# Altium integrated library TI Data Converters Analog to Digital Converter.IntLib: 2198 symbols (part 51 of 164)
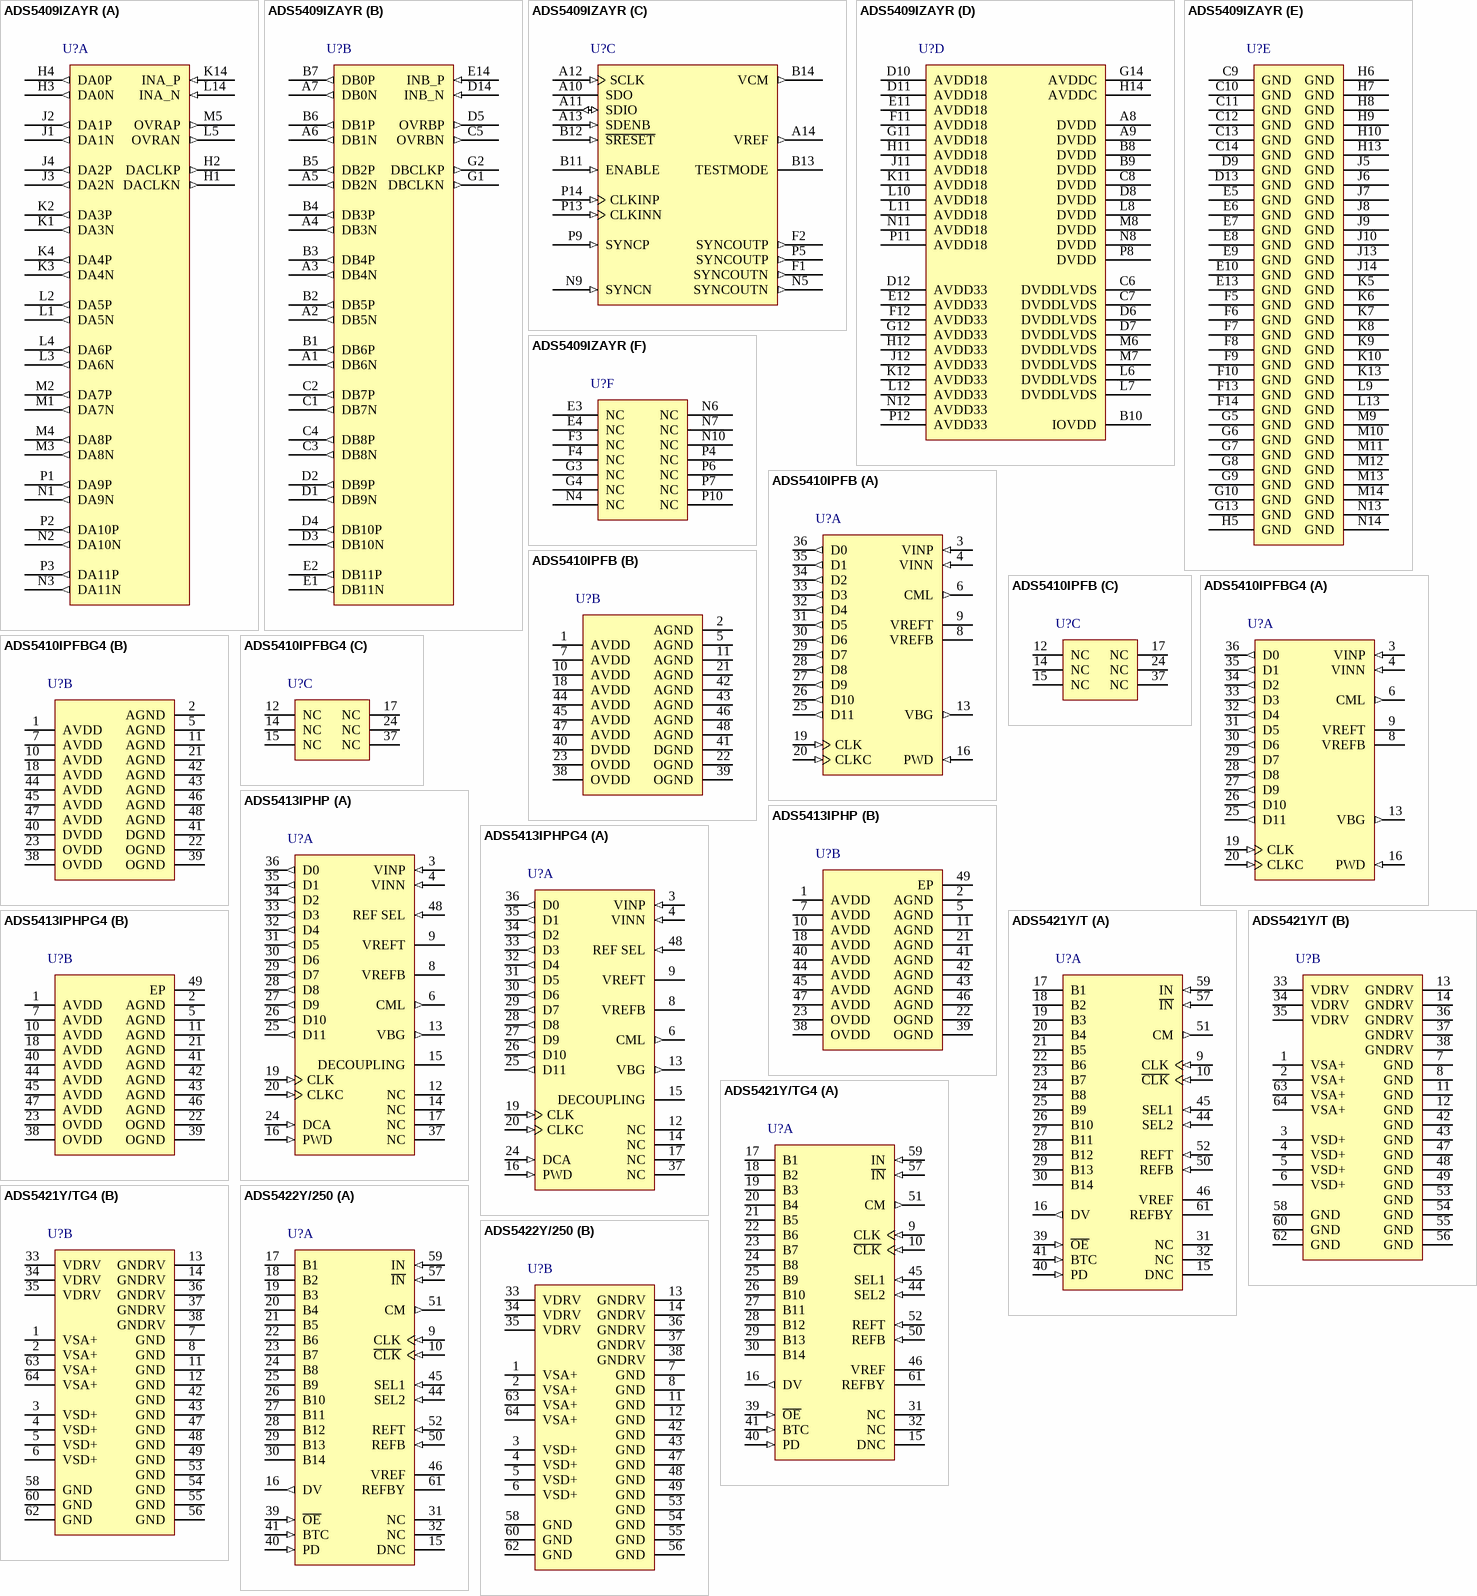
[diagram p176: symbols ADS5409IZAYR to ADS5422Y/250]

## ADS5409IZAYR
designator U?
Dual Channel 12-Bit 900 MSPS ADC, -40 to 85 degC, 196-pin BGA (ZAY196), Green (RoHS & no Sb/Br); Manufacturer: Texas Instruments; PartNumber: ADS5409IZAYR; # Input Channels: 2; Analog Voltage AV/DD(Max)(V): 3.45; Analog Voltage AV/DD(Min)(V): 3.15; Architecture: Pipeline; Digital Supply(Max)(V): 1.9; Digital Supply(Min)(V): 1.7; ENOB(Bits): 9.8; INL(Max)(+/-LSB): 5; Interface: DDR LVDS; Resolution(Bits): 12; Sample Rate(max)(SPS): 900M; SFDR(dB): 76; SINAD(dB): 60.9; SNR(dB): 61; SubFamily: High Speed ADC (>10MSPS); DatasheetVersion: SLAS935; PackageVersion: 4208324-4/C, 09/2010; PackageReference: ZAY196; PackageDescription: 196-Pin Plastic Ball Grid Array, Body 12 x 12 mm, Pitch 0.8 mm; Supplier 1: Digi-Key; Supplier Part Number 1: ADS809Y/250G4-ND; Eco-Plan: Green (RoHS & no Sb/Br); Mounting Technology: Surface Mount; ComponentLink1Description: Manufacturer URL; ComponentLink1URL: http://www.ti.com/; ComponentLink2Description: Datasheet; ComponentLink2URL: http://www.ti.com/lit/ds/symlink/ads5409.pdf; ComponentLink3Description: Package Specification; ComponentLink3URL: http://www.ti.com/litv/pdf/mpbga11
footprint TI-ZAY196 (BGA, 196-Balls, Body 12x12mm, Pitch 0.8mm)
part A pins: H1 DACLKN (out) "DDR differential output data clock for Bus A. Register programmable to provide either rising or falling edge to center of stable data nominal timing.", H2 DACLKP (out) "DDR differential output data clock for Bus A. Register programmable to provide either rising or falling edge to center of stable data nominal timing.", H3 DA0N (out) "ADC A Data Bits 11 (MSB) to 0 (LSB) in DDR output mode. Standard LVDS output.", H4 DA0P (out) "ADC A Data Bits 11 (MSB) to 0 (LSB) in DDR output mode. Standard LVDS output.", J1 DA1N (out) "ADC A Data Bits 11 (MSB) to 0 (LSB) in DDR output mode. Standard LVDS output.", J2 DA1P (out) "ADC A Data Bits 11 (MSB) to 0 (LSB) in DDR output mode. Standard LVDS output.", J3 DA2N (out) "ADC A Data Bits 11 (MSB) to 0 (LSB) in DDR output mode. Standard LVDS output.", J4 DA2P (out) "ADC A Data Bits 11 (MSB) to 0 (LSB) in DDR output mode. Standard LVDS output.", K1 DA3N (out) "ADC A Data Bits 11 (MSB) to 0 (LSB) in DDR output mode. Standard LVDS output.", K2 DA3P (out) "ADC A Data Bits 11 (MSB) to 0 (LSB) in DDR output mode. Standard LVDS output.", K3 DA4N (out) "ADC A Data Bits 11 (MSB) to 0 (LSB) in DDR output mode. Standard LVDS output.", K4 DA4P (out) "ADC A Data Bits 11 (MSB) to 0 (LSB) in DDR output mode. Standard LVDS output.", K14 INA_P (in) "Analog ADC A differential input signal.", L1 DA5N (out) "ADC A Data Bits 11 (MSB) to 0 (LSB) in DDR output mode. Standard LVDS output.", L2 DA5P (out) "ADC A Data Bits 11 (MSB) to 0 (LSB) in DDR output mode. Standard LVDS output.", L3 DA6N (out) "ADC A Data Bits 11 (MSB) to 0 (LSB) in DDR output mode. Standard LVDS output.", L4 DA6P (out) "ADC A Data Bits 11 (MSB) to 0 (LSB) in DDR output mode. Standard LVDS output.", L5 OVRAN (out) "Bus A, Overrange indicator, LVDS output. A logic high signals an analog input in excess of the full-scale range. Optional SYNC output.", L14 INA_N (in) "Analog ADC A differential input signal.", M1 DA7N (out) "ADC A Data Bits 11 (MSB) to 0 (LSB) in DDR output mode. Standard LVDS output.", M2 DA7P (out) "ADC A Data Bits 11 (MSB) to 0 (LSB) in DDR output mode. Standard LVDS output.", M3 DA8N (out) "ADC A Data Bits 11 (MSB) to 0 (LSB) in DDR output mode. Standard LVDS output.", M4 DA8P (out) "ADC A Data Bits 11 (MSB) to 0 (LSB) in DDR output mode. Standard LVDS output.", M5 OVRAP (out) "Bus A, Overrange indicator, LVDS output. A logic high signals an analog input in excess of the full-scale range. Optional SYNC output.", N1 DA9N (out) "ADC A Data Bits 11 (MSB) to 0 (LSB) in DDR output mode. Standard LVDS output.", N2 DA10N (out) "ADC A Data Bits 11 (MSB) to 0 (LSB) in DDR output mode. Standard LVDS output.", N3 DA11N (out) "ADC A Data Bits 11 (MSB) to 0 (LSB) in DDR output mode. Standard LVDS output.", P1 DA9P (out) "ADC A Data Bits 11 (MSB) to 0 (LSB) in DDR output mode. Standard LVDS output.", P2 DA10P (out) "ADC A Data Bits 11 (MSB) to 0 (LSB) in DDR output mode. Standard LVDS output.", P3 DA11P (out) "ADC A Data Bits 11 (MSB) to 0 (LSB) in DDR output mode. Standard LVDS output."
part B pins: A1 DB6N (out) "ADC B Data Bits 11 (MSB) to 0 (LSB) in DDR output mode. Standard LVDS output.", A2 DB5N (out) "ADC B Data Bits 11 (MSB) to 0 (LSB) in DDR output mode. Standard LVDS output.", A3 DB4N (out) "ADC B Data Bits 11 (MSB) to 0 (LSB) in DDR output mode. Standard LVDS output.", A4 DB3N (out) "ADC B Data Bits 11 (MSB) to 0 (LSB) in DDR output mode. Standard LVDS output.", A5 DB2N (out) "ADC B Data Bits 11 (MSB) to 0 (LSB) in DDR output mode. Standard LVDS output.", A6 DB1N (out) "ADC B Data Bits 11 (MSB) to 0 (LSB) in DDR output mode. Standard LVDS output.", A7 DB0N (out) "ADC B Data Bits 11 (MSB) to 0 (LSB) in DDR output mode. Standard LVDS output.", B1 DB6P (out) "ADC B Data Bits 11 (MSB) to 0 (LSB) in DDR output mode. Standard LVDS output.", B2 DB5P (out) "ADC B Data Bits 11 (MSB) to 0 (LSB) in DDR output mode. Standard LVDS output.", B3 DB4P (out) "ADC B Data Bits 11 (MSB) to 0 (LSB) in DDR output mode. Standard LVDS output.", B4 DB3P (out) "ADC B Data Bits 11 (MSB) to 0 (LSB) in DDR output mode. Standard LVDS output.", B5 DB2P (out) "ADC B Data Bits 11 (MSB) to 0 (LSB) in DDR output mode. Standard LVDS output.", B6 DB1P (out) "ADC B Data Bits 11 (MSB) to 0 (LSB) in DDR output mode. Standard LVDS output.", B7 DB0P (out) "ADC B Data Bits 11 (MSB) to 0 (LSB) in DDR output mode. Standard LVDS output.", C1 DB7N (out) "ADC B Data Bits 11 (MSB) to 0 (LSB) in DDR output mode. Standard LVDS output.", C2 DB7P (out) "ADC B Data Bits 11 (MSB) to 0 (LSB) in DDR output mode. Standard LVDS output.", C3 DB8N (out) "ADC B Data Bits 11 (MSB) to 0 (LSB) in DDR output mode. Standard LVDS output.", C4 DB8P (out) "ADC B Data Bits 11 (MSB) to 0 (LSB) in DDR output mode. Standard LVDS output.", C5 OVRBN (out) "Bus B, Overrange indicator, LVDS output. A logic high signals an analog input in excess of the full-scale range. Optional SYNC output.", D1 DB9N (out) "ADC B Data Bits 11 (MSB) to 0 (LSB) in DDR output mode. Standard LVDS output.", D2 DB9P (out) "ADC B Data Bits 11 (MSB) to 0 (LSB) in DDR output mode. Standard LVDS output.", D3 DB10N (out) "ADC B Data Bits 11 (MSB) to 0 (LSB) in DDR output mode. Standard LVDS output.", D4 DB10P (out) "ADC B Data Bits 11 (MSB) to 0 (LSB) in DDR output mode. Standard LVDS output.", D5 OVRBP (out) "Bus B, Overrange indicator, LVDS output. A logic high signals an analog input in excess of the full-scale range. Optional SYNC output.", D14 INB_N (in) "Analog ADC B differential input signal.", E1 DB11N (out) "ADC B Data Bits 11 (MSB) to 0 (LSB) in DDR output mode. Standard LVDS output.", E2 DB11P (out) "ADC B Data Bits 11 (MSB) to 0 (LSB) in DDR output mode. Standard LVDS output.", E14 INB_P (in) "Analog ADC B differential input signal.", G1 DBCLKN (out) "DDR differential output data clock for Bus B. Register programmable to provide either rising or falling edge to center of stable data nominal timing. Optionally Bus B can be latched with DACLKP/N.", G2 DBCLKP (out) "DDR differential output data clock for Bus B. Register programmable to provide either rising or falling edge to center of stable data nominal timing. Optionally Bus B can be latched with DACLKP/N."
part C pins: A10 SDO (hiz) "Uni-directional serial interface data in 4 pin mode (register x00, D16). The SDO pin is tri- stated in 3-pin interface mode (default). Internal 50kohm pull-down resistor.", A11 SDIO (io) "Bi-directional serial data in 3 pin mode (default). In 4-pin interface mode (register x00, D16), the SDIO pin in an input only. Internal 50kohm pull-down.", A12 SCLK (in) "Serial interface clock. Internal 50kohm pull-down resistor.", A13 SDENB (in) "Serial interface enable. Internal 50kohm pull-down resistor.", A14 VREF (out) "Reference voltage output (2V nominal). A 0.1uF capacitor to AGND is recommended, but not required.", B11 ENABLE (in) "Chip enable - active high. Power down function can be controlled through SPI register assignment. Internal 50kohm pull up resistor to IOVDD.", B12 ~{SRESET} (in) "Serial interface reset input. Active low. Initialized internal registers during high to low transition. Asynchronous. Internal 50kohm pull up resistor to IOVDD.", B13 TESTMODE "Factory internal test, do not connect", B14 VCM (out) "Output of the analog input common mode (nominally 1.9V). A 0.1uF capacitor to AGND is recommended.", F1 SYNCOUTN (out) "Synchronization output signal for synchronizing multiple ADCs. Can be disabled via SPI.", F2 SYNCOUTP (out) "Synchronization output signal for synchronizing multiple ADCs. Can be disabled via SPI.", N5 SYNCOUTN (out) "Synchronization output signal for synchronizing multiple ADCs. Can be disabled via SPI.", N9 SYNCN (in) "Synchronization input. Inactive if logic low. When clocked in a high state initially, this is used for resetting internal clocks and digital logic and starting the SYNCOUT signal. Internal 100ohm termination.", P5 SYNCOUTP (out) "Synchronization output signal for synchronizing multiple ADCs. Can be disabled via SPI.", P9 SYNCP (in) "Synchronization input. Inactive if logic low. When clocked in a high state initially, this is used for resetting internal clocks and digital logic and starting the SYNCOUT signal. Internal 100ohm termination.", P13 CLKINN (in) "Differential input clock", P14 CLKINP (in) "Differential input clock"
part D pins: A8 DVDD (power) "1.8V supply for digital block", A9 DVDD (power) "1.8V supply for digital block", B8 DVDD (power) "1.8V supply for digital block", B9 DVDD (power) "1.8V supply for digital block", B10 IOVDD (power) "1.8V for digital I/Os", C6 DVDDLVDS (power) "1.8V supply for LVDS outputs", C7 DVDDLVDS (power) "1.8V supply for LVDS outputs", C8 DVDD (power) "1.8V supply for digital block", D6 DVDDLVDS (power) "1.8V supply for LVDS outputs", D7 DVDDLVDS (power) "1.8V supply for LVDS outputs", D8 DVDD (power) "1.8V supply for digital block", D10 AVDD18 (power) "1.8V analog supply", D11 AVDD18 (power) "1.8V analog supply", D12 AVDD33 (power) "3.3V analog supply", E11 AVDD18 (power) "1.8V analog supply", E12 AVDD33 (power) "3.3V analog supply", F11 AVDD18 (power) "1.8V analog supply", F12 AVDD33 (power) "3.3V analog supply", G11 AVDD18 (power) "1.8V analog supply", G12 AVDD33 (power) "3.3V analog supply", G14 AVDDC (power) "1.8V supply for clock input", H11 AVDD18 (power) "1.8V analog supply", H12 AVDD33 (power) "3.3V analog supply", H14 AVDDC (power) "1.8V supply for clock input", J11 AVDD18 (power) "1.8V analog supply", J12 AVDD33 (power) "3.3V analog supply", K11 AVDD18 (power) "1.8V analog supply", K12 AVDD33 (power) "3.3V analog supply", L6 DVDDLVDS (power) "1.8V supply for LVDS outputs", L7 DVDDLVDS (power) "1.8V supply for LVDS outputs", L8 DVDD (power) "1.8V supply for digital block", L10 AVDD18 (power) "1.8V analog supply", L11 AVDD18 (power) "1.8V analog supply", L12 AVDD33 (power) "3.3V analog supply", M6 DVDDLVDS (power) "1.8V supply for LVDS outputs", M7 DVDDLVDS (power) "1.8V supply for LVDS outputs", M8 DVDD (power) "1.8V supply for digital block", N8 DVDD (power) "1.8V supply for digital block", N11 AVDD18 (power) "1.8V analog supply", N12 AVDD33 (power) "3.3V analog supply", P8 DVDD (power) "1.8V supply for digital block", P11 AVDD18 (power) "1.8V analog supply", P12 AVDD33 (power) "3.3V analog supply"
part E pins: C9 GND (power) "Ground", C10 GND (power) "Ground", C11 GND (power) "Ground", C12 GND (power) "Ground", C13 GND (power) "Ground", C14 GND (power) "Ground", D9 GND (power) "Ground", D13 GND (power) "Ground", E5 GND (power) "Ground", E6 GND (power) "Ground", E7 GND (power) "Ground", E8 GND (power) "Ground", E9 GND (power) "Ground", E10 GND (power) "Ground", E13 GND (power) "Ground", F5 GND (power) "Ground", F6 GND (power) "Ground", F7 GND (power) "Ground", F8 GND (power) "Ground", F9 GND (power) "Ground", F10 GND (power) "Ground", F13 GND (power) "Ground", F14 GND (power) "Ground", G5 GND (power) "Ground", G6 GND (power) "Ground", G7 GND (power) "Ground", G8 GND (power) "Ground", G9 GND (power) "Ground", G10 GND (power) "Ground", G13 GND (power) "Ground", H5 GND (power) "Ground", H6 GND (power) "Ground", H7 GND (power) "Ground", H8 GND (power) "Ground", H9 GND (power) "Ground", H10 GND (power) "Ground", H13 GND (power) "Ground", J5 GND (power) "Ground", J6 GND (power) "Ground", J7 GND (power) "Ground", J8 GND (power) "Ground", J9 GND (power) "Ground", J10 GND (power) "Ground", J13 GND (power) "Ground", J14 GND (power) "Ground", K5 GND (power) "Ground", K6 GND (power) "Ground", K7 GND (power) "Ground", K8 GND (power) "Ground", K9 GND (power) "Ground", K10 GND (power) "Ground", K13 GND (power) "Ground", L9 GND (power) "Ground", L13 GND (power) "Ground", M9 GND (power) "Ground", M10 GND (power) "Ground", M11 GND (power) "Ground", M12 GND (power) "Ground", M13 GND (power) "Ground", M14 GND (power) "Ground", N13 GND (power) "Ground", N14 GND (power) "Ground"
part F pins: E3 NC "Don¡¯t connect to pin", E4 NC "Don¡¯t connect to pin", F3 NC "Don¡¯t connect to pin", F4 NC "Don¡¯t connect to pin", G3 NC "Don¡¯t connect to pin", G4 NC "Don¡¯t connect to pin", N4 NC "Don¡¯t connect to pin", N6 NC "Don¡¯t connect to pin", N7 NC "Don¡¯t connect to pin", N10 NC "Don¡¯t connect to pin", P4 NC "Don¡¯t connect to pin", P6 NC "Don¡¯t connect to pin", P7 NC "Don¡¯t connect to pin", P10 NC "Don¡¯t connect to pin"

## ADS5410IPFB
designator U?
12-Bit, 80 MSPS ADC, Single Channel, Lowest Power, High BW, Excellent Performance, -40 to 85 degC, 48-pin QFP (PFB48), Green (RoHS & no Sb/Br); Manufacturer: Texas Instruments; PartNumber: ADS5410IPFB; # Input Channels: 1; Analog Voltage AV/DD(Max)(V): 3.6; Analog Voltage AV/DD(Min)(V): 3; Architecture: Pipeline; Digital Supply(Max)(V): 2; Digital Supply(Min)(V): 1.6; ENOB(Bits): 10.5; Interface: Parallel LVDS, Serial SPI Interface; Resolution(Bits): 12; Sample Rate (max)(SPS): 80M; SFDR(dB): 76; SINAD(dB): 66; SNR(dB): 67; SubFamily: High Speed ADC (>10MSPS); DatasheetVersion: SLAS346; PackageVersion: 4073176/B, 10/1996; PackageReference: PFB48; PackageDescription: 48-Pin Plastic Flat Pack, Body 7 x 7 mm, Pitch 0.5 mm; Supplier 1: Digi-Key; Supplier Part Number 1: ADS808Y/250TR-ND; Eco-Plan: Green (RoHS & no Sb/Br); INL(Max)(+/-LSB): 2; Mounting Technology: Surface Mount; Code_JEDEC: MS-026; ComponentLink1Description: Manufacturer URL; ComponentLink1URL: http://www.ti.com/; ComponentLink2Description: Datasheet; ComponentLink2URL: http://www.ti.com/general/docs/lit/getliterature.tsp?genericPartNumber=ADS5410&fileType=pdf; ComponentLink3Description: Package Specification; ComponentLink3URL: http://www.ti.com/lit/ml/mtqf019a/mtqf019a.pdf
footprint TI-PFB48_N (QFP, 48-Leads, Body 7x7mm, Pitch 0.5mm, IPC Medium Density)
footprint TI-PFB48_L (QFP, 48-Leads, Body 7x7mm, Pitch 0.5mm, IPC High Density)
footprint TI-PFB48_M (QFP, 48-Leads, Body 7x7mm, Pitch 0.5mm, IPC Low Density)
part A pins: 3 VINP (in) "Analog input", 4 VINN (in) "Complementary analog input", 6 CML (out) "Common-mode output voltage", 8 VREFB "Reference bottom", 9 VREFT "Reference top", 13 VBG (out) "Bandgap voltage output", 16 PWD (in) "Power down, active high", 19 CLK (in) "Clock input", 20 CLKC (in) "Complementary clock input", 25 D11 (out) "Digital outputs, D11 is most significant data bit", 26 D10 (out) "Digital outputs", 27 D9 (out) "Digital outputs", 28 D8 (out) "Digital outputs", 29 D7 (out) "Digital outputs", 30 D6 (out) "Digital outputs", 31 D5 (out) "Digital outputs", 32 D4 (out) "Digital outputs", 33 D3 (out) "Digital outputs", 34 D2 (out) "Digital outputs", 35 D1 (out) "Digital outputs", 36 D0 (out) "Digital outputs, D0 is least significant data bit."
part B pins: 1 AVDD (power) "Analog power supply", 2 AGND (power) "Analog ground", 5 AGND (power) "Analog ground", 7 AVDD (power) "Analog power supply", 10 AVDD (power) "Analog power supply", 11 AGND (power) "Analog ground", 18 AVDD (power) "Analog power supply", 21 AGND (power) "Analog ground", 22 OGND (power) "Digital driver ground", 23 OVDD (power) "Digital driver power", 38 OVDD (power) "Digital driver power", 39 OGND (power) "Digital driver ground", 40 DVDD (power) "Digital power supply", 41 DGND (power) "Digital ground", 42 AGND (power) "Analog ground", 43 AGND (power) "Analog ground", 44 AVDD (power) "Analog power supply", 45 AVDD (power) "Analog power supply", 46 AGND (power) "Analog ground", 47 AVDD (power) "Analog power supply", 48 AGND (power) "Analog ground"
part C pins: 12 NC "No connection", 14 NC "No connection", 15 NC "No connection", 17 NC "No connection", 24 NC "No connection", 37 NC "No connection"

## ADS5410IPFBG4
designator U?
12-Bit, 80 MSPS ADC, Single Channel, Lowest Power, High BW, Excellent Performance, -40 to 85 degC, 48-pin QFP (PFB48), Green (RoHS & no Sb/Br); Manufacturer: Texas Instruments; PartNumber: ADS5410IPFBG4; # Input Channels: 1; Analog Voltage AV/DD(Max)(V): 3.6; Analog Voltage AV/DD(Min)(V): 3; Architecture: Pipeline; Digital Supply(Max)(V): 2; Digital Supply(Min)(V): 1.6; ENOB(Bits): 10.5; Interface: Parallel LVDS, Serial SPI Interface; Resolution(Bits): 12; Sample Rate (max)(SPS): 80M; SFDR(dB): 76; SINAD(dB): 66; SNR(dB): 67; SubFamily: High Speed ADC (>10MSPS); DatasheetVersion: SLAS346; PackageVersion: 4073176/B, 10/1996; PackageReference: PFB48; PackageDescription: 48-Pin Plastic Flat Pack, Body 7 x 7 mm, Pitch 0.5 mm; Supplier 1: Digi-Key; Supplier Part Number 1: ADS808Y/250G4-ND; Eco-Plan: Green (RoHS & no Sb/Br); INL(Max)(+/-LSB): 2; Mounting Technology: Surface Mount; Code_JEDEC: MS-026; ComponentLink1Description: Manufacturer URL; ComponentLink1URL: http://www.ti.com/; ComponentLink2Description: Datasheet; ComponentLink2URL: http://www.ti.com/general/docs/lit/getliterature.tsp?genericPartNumber=ADS5410&fileType=pdf; ComponentLink3Description: Package Specification; ComponentLink3URL: http://www.ti.com/lit/ml/mtqf019a/mtqf019a.pdf
footprint TI-PFB48_N (QFP, 48-Leads, Body 7x7mm, Pitch 0.5mm, IPC Medium Density)
footprint TI-PFB48_L (QFP, 48-Leads, Body 7x7mm, Pitch 0.5mm, IPC High Density)
footprint TI-PFB48_M (QFP, 48-Leads, Body 7x7mm, Pitch 0.5mm, IPC Low Density)
part A pins: 3 VINP (in) "Analog input", 4 VINN (in) "Complementary analog input", 6 CML (out) "Common-mode output voltage", 8 VREFB "Reference bottom", 9 VREFT "Reference top", 13 VBG (out) "Bandgap voltage output", 16 PWD (in) "Power down, active high", 19 CLK (in) "Clock input", 20 CLKC (in) "Complementary clock input", 25 D11 (out) "Digital outputs, D11 is most significant data bit", 26 D10 (out) "Digital outputs", 27 D9 (out) "Digital outputs", 28 D8 (out) "Digital outputs", 29 D7 (out) "Digital outputs", 30 D6 (out) "Digital outputs", 31 D5 (out) "Digital outputs", 32 D4 (out) "Digital outputs", 33 D3 (out) "Digital outputs", 34 D2 (out) "Digital outputs", 35 D1 (out) "Digital outputs", 36 D0 (out) "Digital outputs, D0 is least significant data bit."
part B pins: 1 AVDD (power) "Analog power supply", 2 AGND (power) "Analog ground", 5 AGND (power) "Analog ground", 7 AVDD (power) "Analog power supply", 10 AVDD (power) "Analog power supply", 11 AGND (power) "Analog ground", 18 AVDD (power) "Analog power supply", 21 AGND (power) "Analog ground", 22 OGND (power) "Digital driver ground", 23 OVDD (power) "Digital driver power", 38 OVDD (power) "Digital driver power", 39 OGND (power) "Digital driver ground", 40 DVDD (power) "Digital power supply", 41 DGND (power) "Digital ground", 42 AGND (power) "Analog ground", 43 AGND (power) "Analog ground", 44 AVDD (power) "Analog power supply", 45 AVDD (power) "Analog power supply", 46 AGND (power) "Analog ground", 47 AVDD (power) "Analog power supply", 48 AGND (power) "Analog ground"
part C pins: 12 NC "No connection", 14 NC "No connection", 15 NC "No connection", 17 NC "No connection", 24 NC "No connection", 37 NC "No connection"

## ADS5413IPHP
designator U?
Low Power Analog to Digital Converter, -40 to 85 degC, 48-pin QFP (PHP48), Green (RoHS & no Sb/Br); Manufacturer: Texas Instruments; PartNumber: ADS5413IPHP; # Input Channels: 1; Analog Voltage AV/DD(Max)(V): 3.6; Analog Voltage AV/DD(Min)(V): 3; Architecture: Pipeline; Digital Supply(Max)(V): 3.3; Digital Supply(Min)(V): 1.6; ENOB(Bits): 11.3; INL(Max)(+/-LSB): 2; Interface: Parallel LVDS, Serial SPI Interface; Resolution(Bits): 12; Sample Rate (max)(SPS): 65M; SFDR(dB): 79; SINAD(dB): 67.8; SNR(dB): 68.5; SubFamily: High Speed ADC (>10MSPS); DatasheetVersion: SLWS153; PackageVersion: 4146927/B, 08/2003; PackageReference: PHP48-4410X4410TP; PackageDescription: 48-Pin PowerPAD(TM) Plastic Quad Flatpack, Body 7 x 7 mm, Pitch 0.5 mm; Eco-Plan: Green (RoHS & no Sb/Br); Mounting Technology: Surface Mount; Code_JEDEC: MS-026; ComponentLink1Description: Manufacturer URL; ComponentLink1URL: http://www.ti.com/; ComponentLink2Description: Datasheet; ComponentLink2URL: http://www.ti.com/general/docs/lit/getliterature.tsp?genericPartNumber=ADS5413&fileType=pdf; ComponentLink3Description: Package Specification; ComponentLink3URL: http://www.ti.com/litv/pdf/mpqf051a
footprint TI-PHP48-4410X4410TP_N (QFP, 48-Leads, Body 7x7mm, Pitch 0.5mm, Thermal Pad 4.6 x 4.6 mm, IPC Medium Density)
footprint TI-PHP48-4410X4410TP_L (QFP, 48-Leads, Body 7x7mm, Pitch 0.5mm, Thermal Pad 4.6 x 4.6 mm, IPC High Density)
footprint TI-PHP48-4410X4410TP_M (QFP, 48-Leads, Body 7x7mm, Pitch 0.5mm, Thermal Pad 4.6 x 4.6 mm, IPC Low Density)
part A pins: 3 VINP (in) "Analog input", 4 VINN (in) "Complementary analog input", 6 CML (out) "Common-mode output voltage", 8 VREFB "Reference bottom", 9 VREFT "Reference top", 12 NC "No connection", 13 VBG (out) "Bandgap voltage output", 14 NC "No connection", 15 DECOUPLING "Decoupling pin. Add 0.1 uF to GND", 16 PWD (in) "Power down. High = powered down, low = powered up, NC = powered up", 17 NC "No connection", 19 CLK (in) "Clock input", 20 CLKC (in) "Complementary clock input", 24 DCA (in) "Duty cycle adjust control. High = enable, low = disable, NC = enable", 25 D11 (out) "Digital outputs, D11 is most significant data bit", 26 D10 (out) "Digital outputs", 27 D9 (out) "Digital outputs", 28 D8 (out) "Digital outputs", 29 D7 (out) "Digital outputs", 30 D6 (out) "Digital outputs", 31 D5 (out) "Digital outputs", 32 D4 (out) "Digital outputs", 33 D3 (out) "Digital outputs", 34 D2 (out) "Digital outputs", 35 D1 (out) "Digital outputs", 36 D0 (out) "Digital outputs, D0 is least significant data bit.", 37 NC "No connection", 48 REF SEL (in) "Reference select. High = external reference, low = internal reference, NC = internal reference"
part B pins: 1 AVDD (power) "Analog power supply", 2 AGND (power) "Analog ground", 5 AGND (power) "Analog ground", 7 AVDD (power) "Analog power supply", 10 AVDD (power) "Analog power supply", 11 AGND (power) "Analog ground", 18 AVDD (power) "Analog power supply", 21 AGND (power) "Analog ground", 22 OGND (power) "Digital driver ground", 23 OVDD (power) "Digital driver power supply", 38 OVDD (power) "Digital driver power supply", 39 OGND (power) "Digital driver ground", 40 AVDD (power) "Analog power supply", 41 AGND (power) "Analog ground", 42 AGND (power) "Analog ground", 43 AGND (power) "Analog ground", 44 AVDD (power) "Analog power supply", 45 AVDD (power) "Analog power supply", 46 AGND (power) "Analog ground", 47 AVDD (power) "Analog power supply", 49 EP (power) "Connect to GND Plane"

## ADS5413IPHPG4
designator U?
Low Power Analog to Digital Converter, -40 to 85 degC, 48-pin QFP (PHP48), Green (RoHS & no Sb/Br); Manufacturer: Texas Instruments; PartNumber: ADS5413IPHPG4; # Input Channels: 1; Analog Voltage AV/DD(Max)(V): 3.6; Analog Voltage AV/DD(Min)(V): 3; Architecture: Pipeline; Digital Supply(Max)(V): 3.3; Digital Supply(Min)(V): 1.6; ENOB(Bits): 11.3; INL(Max)(+/-LSB): 2; Interface: Parallel LVDS, Serial SPI Interface; Resolution(Bits): 12; Sample Rate (max)(SPS): 65M; SFDR(dB): 79; SINAD(dB): 67.8; SNR(dB): 68.5; SubFamily: High Speed ADC (>10MSPS); DatasheetVersion: SLWS153; PackageVersion: 4146927/B, 08/2003; PackageReference: PHP48-4410X4410TP; PackageDescription: 48-Pin PowerPAD(TM) Plastic Quad Flatpack, Body 7 x 7 mm, Pitch 0.5 mm; Supplier 1: Digi-Key; Supplier Part Number 1: 296-10016-ND; Eco-Plan: Green (RoHS & no Sb/Br); Mounting Technology: Surface Mount; Code_JEDEC: MS-026; ComponentLink1Description: Manufacturer URL; ComponentLink1URL: http://www.ti.com/; ComponentLink2Description: Datasheet; ComponentLink2URL: http://www.ti.com/general/docs/lit/getliterature.tsp?genericPartNumber=ADS5413&fileType=pdf; ComponentLink3Description: Package Specification; ComponentLink3URL: http://www.ti.com/litv/pdf/mpqf051a
footprint TI-PHP48-4410X4410TP_N (QFP, 48-Leads, Body 7x7mm, Pitch 0.5mm, Thermal Pad 4.6 x 4.6 mm, IPC Medium Density)
footprint TI-PHP48-4410X4410TP_L (QFP, 48-Leads, Body 7x7mm, Pitch 0.5mm, Thermal Pad 4.6 x 4.6 mm, IPC High Density)
footprint TI-PHP48-4410X4410TP_M (QFP, 48-Leads, Body 7x7mm, Pitch 0.5mm, Thermal Pad 4.6 x 4.6 mm, IPC Low Density)
part A pins: 3 VINP (in) "Analog input", 4 VINN (in) "Complementary analog input", 6 CML (out) "Common-mode output voltage", 8 VREFB "Reference bottom", 9 VREFT "Reference top", 12 NC "No connection", 13 VBG (out) "Bandgap voltage output", 14 NC "No connection", 15 DECOUPLING "Decoupling pin. Add 0.1 uF to GND", 16 PWD (in) "Power down. High = powered down, low = powered up, NC = powered up", 17 NC "No connection", 19 CLK (in) "Clock input", 20 CLKC (in) "Complementary clock input", 24 DCA (in) "Duty cycle adjust control. High = enable, low = disable, NC = enable", 25 D11 (out) "Digital outputs, D11 is most significant data bit", 26 D10 (out) "Digital outputs", 27 D9 (out) "Digital outputs", 28 D8 (out) "Digital outputs", 29 D7 (out) "Digital outputs", 30 D6 (out) "Digital outputs", 31 D5 (out) "Digital outputs", 32 D4 (out) "Digital outputs", 33 D3 (out) "Digital outputs", 34 D2 (out) "Digital outputs", 35 D1 (out) "Digital outputs", 36 D0 (out) "Digital outputs, D0 is least significant data bit.", 37 NC "No connection", 48 REF SEL (in) "Reference select. High = external reference, low = internal reference, NC = internal reference"
part B pins: 1 AVDD (power) "Analog power supply", 2 AGND (power) "Analog ground", 5 AGND (power) "Analog ground", 7 AVDD (power) "Analog power supply", 10 AVDD (power) "Analog power supply", 11 AGND (power) "Analog ground", 18 AVDD (power) "Analog power supply", 21 AGND (power) "Analog ground", 22 OGND (power) "Digital driver ground", 23 OVDD (power) "Digital driver power supply", 38 OVDD (power) "Digital driver power supply", 39 OGND (power) "Digital driver ground", 40 AVDD (power) "Analog power supply", 41 AGND (power) "Analog ground", 42 AGND (power) "Analog ground", 43 AGND (power) "Analog ground", 44 AVDD (power) "Analog power supply", 45 AVDD (power) "Analog power supply", 46 AGND (power) "Analog ground", 47 AVDD (power) "Analog power supply", 49 EP (power) "Connect to GND Plane"

## ADS5421Y/T
designator U?
14-Bit, 40 MSPS Sampling ADC, -40 to 85 degC, 64-pin QFP (PM64), Green (RoHS & no Sb/Br); Manufacturer: Texas Instruments; PartNumber: ADS5421Y/T; # Input Channels: 1; Analog Voltage AV/DD(Max)(V): 5.25; Analog Voltage AV/DD(Min)(V): 4.75; Architecture: Pipeline; Digital Supply(Max)(V): 5; Digital Supply(Min)(V): 3; ENOB(Bits): 12.2; Interface: Parallel LVDS, Serial SPI Interface; Resolution(Bits): 14; Sample Rate (max)(SPS): 40M; SFDR(dB): 88; SINAD(dB): 75; SNR(dB): 76; SubFamily: High Speed ADC (>10MSPS); DatasheetVersion: SBAS237E; PackageVersion: 4040152/C, 11/1996; PackageReference: PM64; PackageDescription: 64-Pin Plastic Quad Flatpack, Body 10 x 10 mm, Pitch 0.5 mm; Supplier 1: Digi-Key; Supplier Part Number 1: ADS1602IPFBR-ND; Eco-Plan: Green (RoHS & no Sb/Br); Mounting Technology: Surface Mount; Code_JEDEC: MS-026; ComponentLink1Description: Manufacturer URL; ComponentLink1URL: http://www.ti.com/; ComponentLink2Description: Datasheet; ComponentLink2URL: http://www.ti.com/general/docs/lit/getliterature.tsp?genericPartNumber=ADS5421&fileType=pdf; ComponentLink3Description: Package Specification; ComponentLink3URL: http://www.ti.com/lit/ml/mtqf008a/mtqf008a.pdf
footprint TI-PM64_N (QFP, 64-Leads, Body 10x10mm, Pitch 0.5mm, IPC Medium Density)
footprint TI-PM64_L (QFP, 64-Leads, Body 10x10mm, Pitch 0.5mm, IPC High Density)
footprint TI-PM64_M (QFP, 64-Leads, Body 10x10mm, Pitch 0.5mm, IPC Low Density)
part A pins: 9 CLK (in) "Clock Input", 10 ~{CLK} (in) "Complementary Clock Input", 15 DNC "Do Not Connect", 16 DV (out) "Data Valid Pulse: HI = Data Valid", 17 B1 (hiz) "Data Bit 1 (D13) (MSB)", 18 B2 (hiz) "Data Bit 2 (D12)", 19 B3 (hiz) "Data Bit 3 (D11)", 20 B4 (hiz) "Data Bit 4 (D10)", 21 B5 (hiz) "Data Bit 5 (D9)", 22 B6 (hiz) "Data Bit 6 (D8)", 23 B7 (hiz) "Data Bit 7 (D7)", 24 B8 (hiz) "Data Bit 8 (D6)", 25 B9 (hiz) "Data Bit 9 (D5)", 26 B10 (hiz) "Data Bit 10 (D4)", 27 B11 (hiz) "Data Bit 11 (D3)", 28 B12 (hiz) "Data Bit 12 (D2)", 29 B13 (hiz) "Data Bit 13 (D1)", 30 B14 (hiz) "Data Bit 14 (D0) (LSB)", 31 NC "No Internal Connection", 32 NC "No Internal Connection", 39 ~{OE} (in) "Output Enable: HI = High Impedance", 40 PD (in) "Power Down: HI = Power Down; LO = Normal", 41 BTC (in) "HI = Binary Two‘s Complement", 44 SEL2 (in) "Reference Select 2: See Table on Page 5", 45 SEL1 (in) "Reference Select 1: See Table on Page 5", 46 VREF "Internal Reference Voltage", 50 REFB (in) "Bottom Reference Voltage Bypass", 51 CM (out) "Common-Mode Voltage (Midscale)", 52 REFT (in) "Top Reference Voltage Bypass", 57 ~{IN} (in) "Complementary Analog Input", 59 IN (in) "Analog Input", 61 REFBY "Reference Bypass"
part B pins: 1 VSA+ (power) "Analog Supply Voltage", 2 VSA+ (power) "Analog Supply Voltage", 3 VSD+ (power) "Digital Supply Voltage", 4 VSD+ (power) "Digital Supply Voltage", 5 VSD+ (power) "Digital Supply Voltage", 6 VSD+ (power) "Digital Supply Voltage", 7 GND (power) "Ground", 8 GND (power) "Ground", 11 GND (power) "Ground", 12 GND (power) "Ground", 13 GNDRV (power) "Ground", 14 GNDRV (power) "Ground", 33 VDRV (power) "Output Driver Supply Voltage", 34 VDRV (power) "Output Driver Supply Voltage", 35 VDRV (power) "Output Driver Supply Voltage", 36 GNDRV (power) "Ground", 37 GNDRV (power) "Ground", 38 GNDRV (power) "Ground", 42 GND (power) "Ground", 43 GND (power) "Ground", 47 GND (power) "Ground", 48 GND (power) "Ground", 49 GND (power) "Ground", 53 GND (power) "Ground", 54 GND (power) "Ground", 55 GND (power) "Ground", 56 GND (power) "Ground", 58 GND (power) "Ground", 60 GND (power) "Ground", 62 GND (power) "Ground", 63 VSA+ (power) "Analog Supply Voltage", 64 VSA+ (power) "Analog Supply Voltage"

## ADS5421Y/TG4
designator U?
14-Bit, 40 MSPS Sampling ADC, -40 to 85 degC, 64-pin QFP (PM64), Green (RoHS & no Sb/Br); Manufacturer: Texas Instruments; PartNumber: ADS5421Y/TG4; # Input Channels: 1; Analog Voltage AV/DD(Max)(V): 5.25; Analog Voltage AV/DD(Min)(V): 4.75; Architecture: Pipeline; Digital Supply(Max)(V): 5; Digital Supply(Min)(V): 3; ENOB(Bits): 12.2; Interface: Parallel LVDS, Serial SPI Interface; Resolution(Bits): 14; Sample Rate (max)(SPS): 40M; SFDR(dB): 88; SINAD(dB): 75; SNR(dB): 76; SubFamily: High Speed ADC (>10MSPS); DatasheetVersion: SBAS237E; PackageVersion: 4040152/C, 11/1996; PackageReference: PM64; PackageDescription: 64-Pin Plastic Quad Flatpack, Body 10 x 10 mm, Pitch 0.5 mm; Supplier 1: Digi-Key; Supplier Part Number 1: ADS1602IPFBRG4-ND; Eco-Plan: Green (RoHS & no Sb/Br); Mounting Technology: Surface Mount; Code_JEDEC: MS-026; ComponentLink1Description: Manufacturer URL; ComponentLink1URL: http://www.ti.com/; ComponentLink2Description: Datasheet; ComponentLink2URL: http://www.ti.com/general/docs/lit/getliterature.tsp?genericPartNumber=ADS5421&fileType=pdf; ComponentLink3Description: Package Specification; ComponentLink3URL: http://www.ti.com/lit/ml/mtqf008a/mtqf008a.pdf
footprint TI-PM64_N (QFP, 64-Leads, Body 10x10mm, Pitch 0.5mm, IPC Medium Density)
footprint TI-PM64_L (QFP, 64-Leads, Body 10x10mm, Pitch 0.5mm, IPC High Density)
footprint TI-PM64_M (QFP, 64-Leads, Body 10x10mm, Pitch 0.5mm, IPC Low Density)
part A pins: 9 CLK (in) "Clock Input", 10 ~{CLK} (in) "Complementary Clock Input", 15 DNC "Do Not Connect", 16 DV (out) "Data Valid Pulse: HI = Data Valid", 17 B1 (hiz) "Data Bit 1 (D13) (MSB)", 18 B2 (hiz) "Data Bit 2 (D12)", 19 B3 (hiz) "Data Bit 3 (D11)", 20 B4 (hiz) "Data Bit 4 (D10)", 21 B5 (hiz) "Data Bit 5 (D9)", 22 B6 (hiz) "Data Bit 6 (D8)", 23 B7 (hiz) "Data Bit 7 (D7)", 24 B8 (hiz) "Data Bit 8 (D6)", 25 B9 (hiz) "Data Bit 9 (D5)", 26 B10 (hiz) "Data Bit 10 (D4)", 27 B11 (hiz) "Data Bit 11 (D3)", 28 B12 (hiz) "Data Bit 12 (D2)", 29 B13 (hiz) "Data Bit 13 (D1)", 30 B14 (hiz) "Data Bit 14 (D0) (LSB)", 31 NC "No Internal Connection", 32 NC "No Internal Connection", 39 ~{OE} (in) "Output Enable: HI = High Impedance", 40 PD (in) "Power Down: HI = Power Down; LO = Normal", 41 BTC (in) "HI = Binary Two‘s Complement", 44 SEL2 (in) "Reference Select 2: See Table on Page 5", 45 SEL1 (in) "Reference Select 1: See Table on Page 5", 46 VREF "Internal Reference Voltage", 50 REFB (in) "Bottom Reference Voltage Bypass", 51 CM (out) "Common-Mode Voltage (Midscale)", 52 REFT (in) "Top Reference Voltage Bypass", 57 ~{IN} (in) "Complementary Analog Input", 59 IN (in) "Analog Input", 61 REFBY "Reference Bypass"
part B pins: 1 VSA+ (power) "Analog Supply Voltage", 2 VSA+ (power) "Analog Supply Voltage", 3 VSD+ (power) "Digital Supply Voltage", 4 VSD+ (power) "Digital Supply Voltage", 5 VSD+ (power) "Digital Supply Voltage", 6 VSD+ (power) "Digital Supply Voltage", 7 GND (power) "Ground", 8 GND (power) "Ground", 11 GND (power) "Ground", 12 GND (power) "Ground", 13 GNDRV (power) "Ground", 14 GNDRV (power) "Ground", 33 VDRV (power) "Output Driver Supply Voltage", 34 VDRV (power) "Output Driver Supply Voltage", 35 VDRV (power) "Output Driver Supply Voltage", 36 GNDRV (power) "Ground", 37 GNDRV (power) "Ground", 38 GNDRV (power) "Ground", 42 GND (power) "Ground", 43 GND (power) "Ground", 47 GND (power) "Ground", 48 GND (power) "Ground", 49 GND (power) "Ground", 53 GND (power) "Ground", 54 GND (power) "Ground", 55 GND (power) "Ground", 56 GND (power) "Ground", 58 GND (power) "Ground", 60 GND (power) "Ground", 62 GND (power) "Ground", 63 VSA+ (power) "Analog Supply Voltage", 64 VSA+ (power) "Analog Supply Voltage"

## ADS5422Y/250
designator U?
14-Bit, 62 MSPS Sampling ADC, -40 to 85 degC, 64-pin QFP (PM64), Green (RoHS & no Sb/Br); Manufacturer: Texas Instruments; PartNumber: ADS5422Y/250; # Input Channels: 1; Analog Voltage AV/DD(Max)(V): 5.25; Analog Voltage AV/DD(Min)(V): 4.75; Architecture: Pipeline; Digital Supply(Max)(V): 5; Digital Supply(Min)(V): 3; ENOB(Bits): 11.7; Interface: Parallel LVDS, Serial SPI Interface; Resolution(Bits): 14; Sample Rate (max)(SPS): 62M; SFDR(dB): 85; SINAD(dB): 72; SNR(dB): 73; SubFamily: High Speed ADC (>10MSPS); DatasheetVersion: SBAS250D; PackageVersion: 4040152/C, 11/1996; PackageReference: PM64; PackageDescription: 64-Pin Plastic Quad Flatpack, Body 10 x 10 mm, Pitch 0.5 mm; Supplier 1: Digi-Key; Supplier Part Number 1: 296-17890-2-ND; Eco-Plan: Green (RoHS & no Sb/Br); Mounting Technology: Surface Mount; Code_JEDEC: MS-026; ComponentLink1Description: Manufacturer URL; ComponentLink1URL: http://www.ti.com/; ComponentLink2Description: Datasheet; ComponentLink2URL: http://www.ti.com/general/docs/lit/getliterature.tsp?genericPartNumber=ADS5422&fileType=pdf; ComponentLink3Description: Package Specification; ComponentLink3URL: http://www.ti.com/lit/ml/mtqf008a/mtqf008a.pdf
footprint TI-PM64_N (QFP, 64-Leads, Body 10x10mm, Pitch 0.5mm, IPC Medium Density)
footprint TI-PM64_L (QFP, 64-Leads, Body 10x10mm, Pitch 0.5mm, IPC High Density)
footprint TI-PM64_M (QFP, 64-Leads, Body 10x10mm, Pitch 0.5mm, IPC Low Density)
part A pins: 9 CLK (in) "Clock Input", 10 ~{CLK} (in) "Complementary Clock Input", 15 DNC "Do Not Connect", 16 DV (out) "Data Valid Pulse: HI = Data Valid", 17 B1 (hiz) "Data Bit 1 (D13) (MSB)", 18 B2 (hiz) "Data Bit 2 (D12)", 19 B3 (hiz) "Data Bit 3 (D11)", 20 B4 (hiz) "Data Bit 4 (D10)", 21 B5 (hiz) "Data Bit 5 (D9)", 22 B6 (hiz) "Data Bit 6 (D8)", 23 B7 (hiz) "Data Bit 7 (D7)", 24 B8 (hiz) "Data Bit 8 (D6)", 25 B9 (hiz) "Data Bit 9 (D5)", 26 B10 (hiz) "Data Bit 10 (D4)", 27 B11 (hiz) "Data Bit 11 (D3)", 28 B12 (hiz) "Data Bit 12 (D2)", 29 B13 (hiz) "Data Bit 13 (D1)", 30 B14 (hiz) "Data Bit 14 (D0) (LSB)", 31 NC "No Internal Connection", 32 NC "No Internal Connection", 39 ~{OE} (in) "Output Enable: HI = High Impedance", 40 PD (in) "Power Down: HI = Power Down; LO = Normal", 41 BTC (in) "HI = Binary Two‘s Complement", 44 SEL2 (in) "Reference Select 2: See Table on Page 5", 45 SEL1 (in) "Reference Select 1: See Table on Page 5", 46 VREF "Internal Reference Voltage", 50 REFB (in) "Bottom Reference Voltage Bypass", 51 CM (out) "Common-Mode Voltage (Midscale)", 52 REFT (in) "Top Reference Voltage Bypass", 57 ~{IN} (in) "Complementary Analog Input", 59 IN (in) "Analog Input", 61 REFBY "Reference Bypass"
part B pins: 1 VSA+ (power) "Analog Supply Voltage", 2 VSA+ (power) "Analog Supply Voltage", 3 VSD+ (power) "Digital Supply Voltage", 4 VSD+ (power) "Digital Supply Voltage", 5 VSD+ (power) "Digital Supply Voltage", 6 VSD+ (power) "Digital Supply Voltage", 7 GND (power) "Ground", 8 GND (power) "Ground", 11 GND (power) "Ground", 12 GND (power) "Ground", 13 GNDRV (power) "Ground", 14 GNDRV (power) "Ground", 33 VDRV (power) "Output Driver Supply Voltage", 34 VDRV (power) "Output Driver Supply Voltage", 35 VDRV (power) "Output Driver Supply Voltage", 36 GNDRV (power) "Ground", 37 GNDRV (power) "Ground", 38 GNDRV (power) "Ground", 42 GND (power) "Ground", 43 GND (power) "Ground", 47 GND (power) "Ground", 48 GND (power) "Ground", 49 GND (power) "Ground", 53 GND (power) "Ground", 54 GND (power) "Ground", 55 GND (power) "Ground", 56 GND (power) "Ground", 58 GND (power) "Ground", 60 GND (power) "Ground", 62 GND (power) "Ground", 63 VSA+ (power) "Analog Supply Voltage", 64 VSA+ (power) "Analog Supply Voltage"

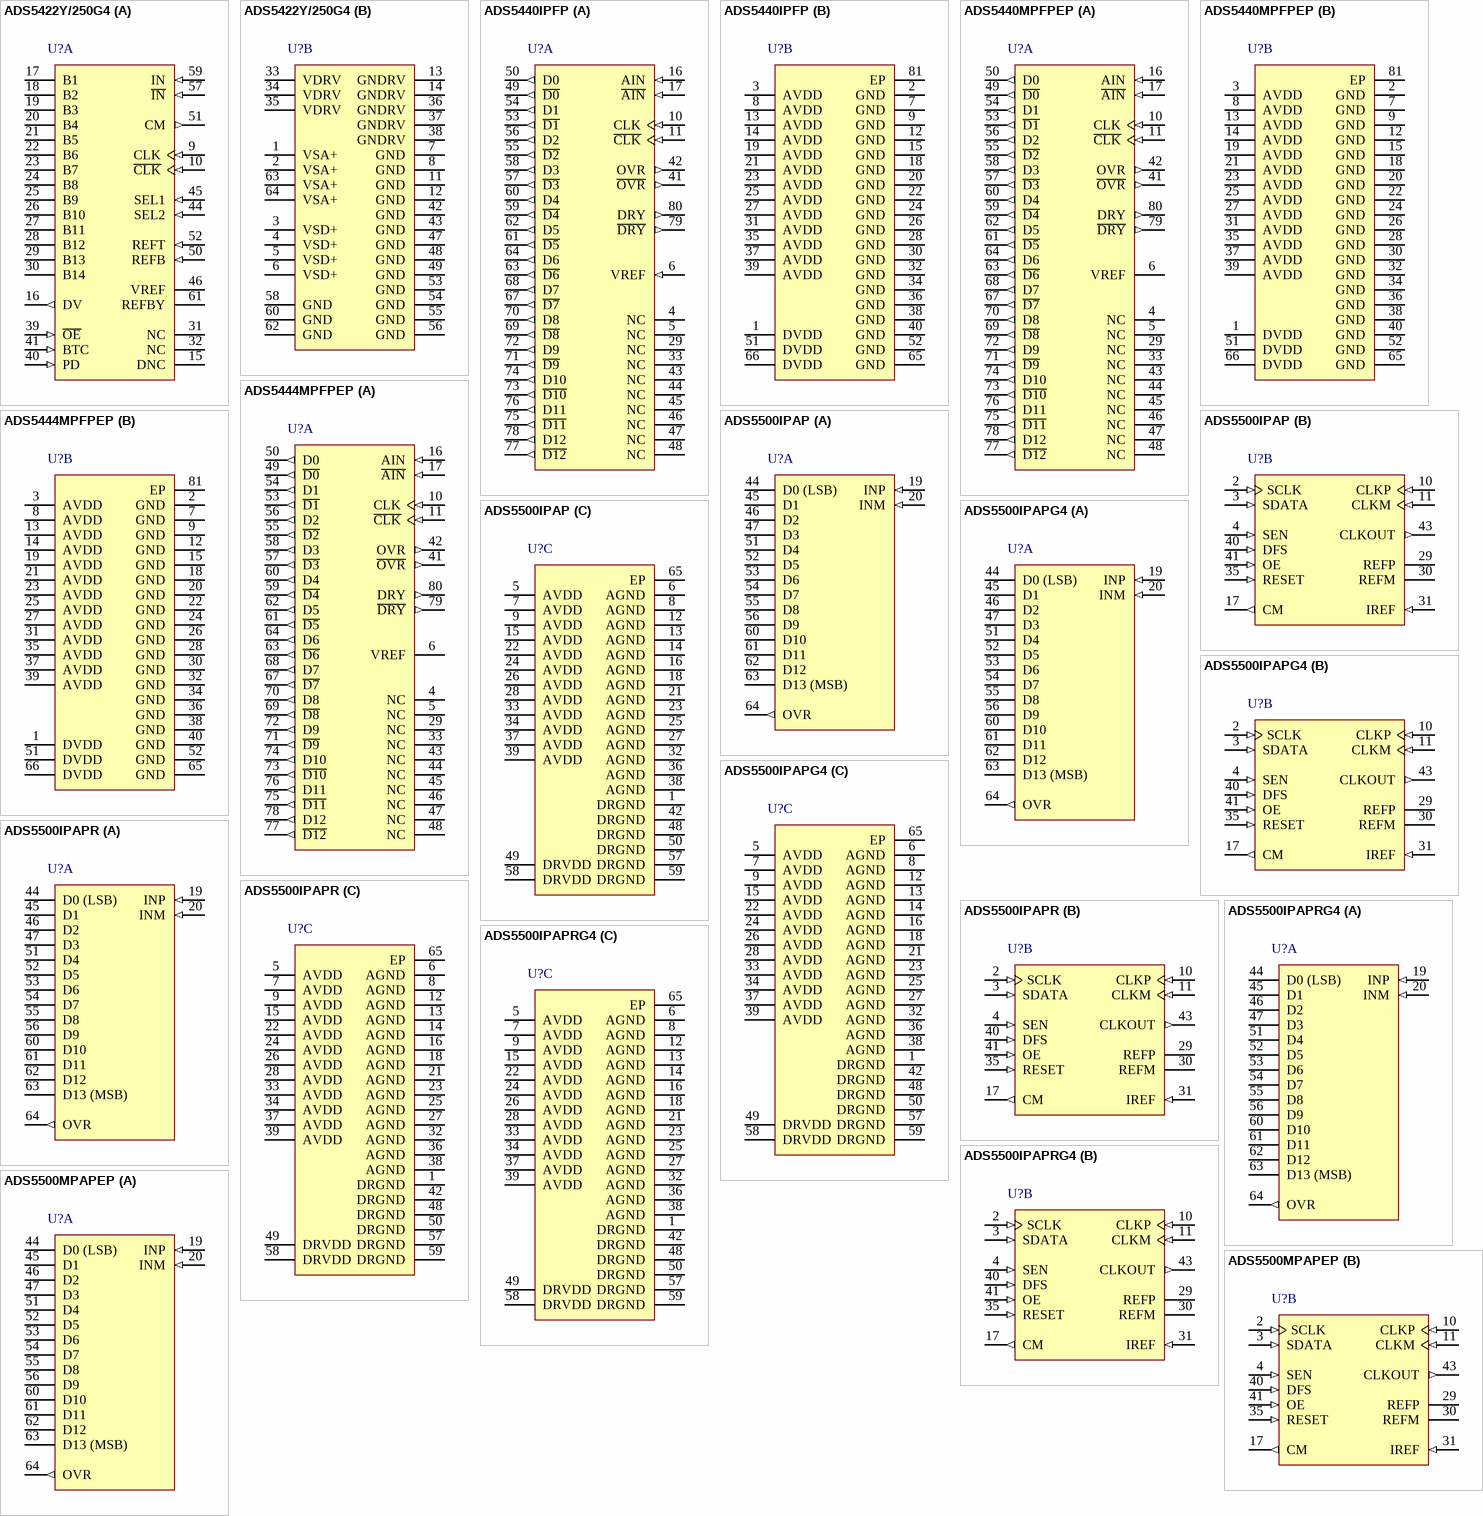
[diagram p51: symbols ADS5422Y/250G4 to ADS5500MPAPEP]

## ADS5422Y/250G4
designator U?
14-Bit, 62 MSPS Sampling ADC, -40 to 85 degC, 64-pin QFP (PM64), Green (RoHS & no Sb/Br); Manufacturer: Texas Instruments; PartNumber: ADS5422Y/250G4; # Input Channels: 1; Analog Voltage AV/DD(Max)(V): 5.25; Analog Voltage AV/DD(Min)(V): 4.75; Architecture: Pipeline; Digital Supply(Max)(V): 5; Digital Supply(Min)(V): 3; ENOB(Bits): 11.7; Interface: Parallel LVDS, Serial SPI Interface; Resolution(Bits): 14; Sample Rate (max)(SPS): 62M; SFDR(dB): 85; SINAD(dB): 72; SNR(dB): 73; SubFamily: High Speed ADC (>10MSPS); DatasheetVersion: SBAS250D; PackageVersion: 4040152/C, 11/1996; PackageReference: PM64; PackageDescription: 64-Pin Plastic Quad Flatpack, Body 10 x 10 mm, Pitch 0.5 mm; Supplier 1: Digi-Key; Supplier Part Number 1: ADS1602IPFBTG4-ND; Eco-Plan: Green (RoHS & no Sb/Br); Mounting Technology: Surface Mount; Code_JEDEC: MS-026; ComponentLink1Description: Manufacturer URL; ComponentLink1URL: http://www.ti.com/; ComponentLink2Description: Datasheet; ComponentLink2URL: http://www.ti.com/general/docs/lit/getliterature.tsp?genericPartNumber=ADS5422&fileType=pdf; ComponentLink3Description: Package Specification; ComponentLink3URL: http://www.ti.com/lit/ml/mtqf008a/mtqf008a.pdf
footprint TI-PM64_N (QFP, 64-Leads, Body 10x10mm, Pitch 0.5mm, IPC Medium Density)
footprint TI-PM64_L (QFP, 64-Leads, Body 10x10mm, Pitch 0.5mm, IPC High Density)
footprint TI-PM64_M (QFP, 64-Leads, Body 10x10mm, Pitch 0.5mm, IPC Low Density)
part A pins: 9 CLK (in) "Clock Input", 10 ~{CLK} (in) "Complementary Clock Input", 15 DNC "Do Not Connect", 16 DV (out) "Data Valid Pulse: HI = Data Valid", 17 B1 (hiz) "Data Bit 1 (D13) (MSB)", 18 B2 (hiz) "Data Bit 2 (D12)", 19 B3 (hiz) "Data Bit 3 (D11)", 20 B4 (hiz) "Data Bit 4 (D10)", 21 B5 (hiz) "Data Bit 5 (D9)", 22 B6 (hiz) "Data Bit 6 (D8)", 23 B7 (hiz) "Data Bit 7 (D7)", 24 B8 (hiz) "Data Bit 8 (D6)", 25 B9 (hiz) "Data Bit 9 (D5)", 26 B10 (hiz) "Data Bit 10 (D4)", 27 B11 (hiz) "Data Bit 11 (D3)", 28 B12 (hiz) "Data Bit 12 (D2)", 29 B13 (hiz) "Data Bit 13 (D1)", 30 B14 (hiz) "Data Bit 14 (D0) (LSB)", 31 NC "No Internal Connection", 32 NC "No Internal Connection", 39 ~{OE} (in) "Output Enable: HI = High Impedance", 40 PD (in) "Power Down: HI = Power Down; LO = Normal", 41 BTC (in) "HI = Binary Two‘s Complement", 44 SEL2 (in) "Reference Select 2: See Table on Page 5", 45 SEL1 (in) "Reference Select 1: See Table on Page 5", 46 VREF "Internal Reference Voltage", 50 REFB (in) "Bottom Reference Voltage Bypass", 51 CM (out) "Common-Mode Voltage (Midscale)", 52 REFT (in) "Top Reference Voltage Bypass", 57 ~{IN} (in) "Complementary Analog Input", 59 IN (in) "Analog Input", 61 REFBY "Reference Bypass"
part B pins: 1 VSA+ (power) "Analog Supply Voltage", 2 VSA+ (power) "Analog Supply Voltage", 3 VSD+ (power) "Digital Supply Voltage", 4 VSD+ (power) "Digital Supply Voltage", 5 VSD+ (power) "Digital Supply Voltage", 6 VSD+ (power) "Digital Supply Voltage", 7 GND (power) "Ground", 8 GND (power) "Ground", 11 GND (power) "Ground", 12 GND (power) "Ground", 13 GNDRV (power) "Ground", 14 GNDRV (power) "Ground", 33 VDRV (power) "Output Driver Supply Voltage", 34 VDRV (power) "Output Driver Supply Voltage", 35 VDRV (power) "Output Driver Supply Voltage", 36 GNDRV (power) "Ground", 37 GNDRV (power) "Ground", 38 GNDRV (power) "Ground", 42 GND (power) "Ground", 43 GND (power) "Ground", 47 GND (power) "Ground", 48 GND (power) "Ground", 49 GND (power) "Ground", 53 GND (power) "Ground", 54 GND (power) "Ground", 55 GND (power) "Ground", 56 GND (power) "Ground", 58 GND (power) "Ground", 60 GND (power) "Ground", 62 GND (power) "Ground", 63 VSA+ (power) "Analog Supply Voltage", 64 VSA+ (power) "Analog Supply Voltage"

## ADS5440IPFP
designator U?
13-Bit, 210 MSPS Pipeline ADC, -40 to 85 degC, 80-pin QFP (PFP80), Green (RoHS & no Sb/Br); Manufacturer: Texas Instruments; PartNumber: ADS5440IPFP; # Input Channels: 1; Analog Voltage AV/DD(Max)(V): 5.25; Analog Voltage AV/DD(Min)(V): 4.75; Digital Supply(Max)(V): 3.6; Digital Supply(Min)(V): 3; ENOB(Bits): 11.4; INL(Max)(+/-LSB): 2.2; Interface: Parallel LVDS; Resolution(Bits): 13; Sample Rate (max)(SPS): 210M; SFDR(dB): 76; SINAD(dB): 68; SNR(dB): 69; SubFamily: High Speed ADC (>10MSPS); DatasheetVersion: SLAS467A; PackageVersion: 4146925/C, 07/2011; PackageReference: PFP80-6825X6825TP; PackageDescription: 80-Pin PowerPAD(TM) Plastic Quad Flatpack, Body 12 x 12 mm, Pitch 0.5 mm; Supplier 1: Digi-Key; Supplier Part Number 1: 296-25640-2-ND; Architecture: Pipeline; Eco-Plan: Green (RoHS & no Sb/Br); Mounting Technology: Surface Mount; Code_JEDEC: MS-026; ComponentLink1Description: Manufacturer URL; ComponentLink1URL: http://www.ti.com/; ComponentLink2Description: Datasheet; ComponentLink2URL: http://www.ti.com/general/docs/lit/getliterature.tsp?genericPartNumber=ADS5440&fileType=pdf; ComponentLink3Description: Package Specification; ComponentLink3URL: http://www.ti.com/litv/pdf/mpqf049b
footprint TI-PFP80-6825X6825TP_N (QFP, 80-Leads, Body 12x12mm, Pitch 0.5mm, Thermal Pad 7.5x7.5mm, IPC Medium Density)
footprint TI-PFP80-6825X6825TP_L (QFP, 80-Leads, Body 12x12mm, Pitch 0.5mm, Thermal Pad 7.5x7.5mm, IPC High Density)
footprint TI-PFP80-6825X6825TP_M (QFP, 80-Leads, Body 12x12mm, Pitch 0.5mm, Thermal Pad 7.5x7.5mm, IPC Low Density)
part A pins: 4 NC "No connect", 5 NC "No connect", 6 VREF (in) "Reference voltage", 10 CLK (in) "Differential input clock (positive). Conversion initiated on rising edge", 11 ~{CLK} (in) "Differential input clock (negative)", 16 AIN (in) "Differential input signal (positive)", 17 ~{AIN} (in) "Differential input signal (negative)", 29 NC "No connect", 33 NC "No connect", 41 ~{OVR} (out) "Over range indicator LVDS output. A logic high signals an analog input in excess of the full-scale range", 42 OVR (out) "Over range indicator LVDS output. A logic high signals an analog input in excess of the full-scale range", 43 NC "No connect", 44 NC "No connect", 45 NC "No connect", 46 NC "No connect", 47 NC "No connect", 48 NC "No connect", 49 ~{D0} (out) "LVDS digital output pair, least-significant bit (LSB)", 50 D0 (out) "LVDS digital output pair, least-significant bit (LSB)", 53 ~{D1} (out) "LVDS digital output pairs", 54 D1 (out) "LVDS digital output pairs", 55 ~{D2} (out) "LVDS digital output pairs", 56 D2 (out) "LVDS digital output pairs", 57 ~{D3} (out) "LVDS digital output pairs", 58 D3 (out) "LVDS digital output pairs", 59 ~{D4} (out) "LVDS digital output pairs", 60 D4 (out) "LVDS digital output pairs", 61 ~{D5} (out) "LVDS digital output pairs", 62 D5 (out) "LVDS digital output pairs", 63 ~{D6} (out) "LVDS digital output pairs", 64 D6 (out) "LVDS digital output pairs", 67 ~{D7} (out) "LVDS digital output pairs", 68 D7 (out) "LVDS digital output pairs", 69 ~{D8} (out) "LVDS digital output pairs", 70 D8 (out) "LVDS digital output pairs", 71 ~{D9} (out) "LVDS digital output pairs", 72 D9 (out) "LVDS digital output pairs", 73 ~{D10} (out) "LVDS digital output pairs", 74 D10 (out) "LVDS digital output pairs", 75 ~{D11} (out) "LVDS digital output pairs", 76 D11 (out) "LVDS digital output pairs", 77 ~{D12} (out) "LVDS digital output pair, most-significant bit (MSB)", 78 D12 (out) "LVDS digital output pair, most-significant bit (MSB)", 79 ~{DRY} (out) "Data ready LVDS output pair", 80 DRY (out) "Data ready LVDS output pair"
part B pins: 1 DVDD (power) "Output driver power supply", 2 GND (power) "Ground", 3 AVDD (power) "Analog power supply", 7 GND (power) "Ground", 8 AVDD (power) "Analog power supply", 9 GND (power) "Ground", 12 GND (power) "Ground", 13 AVDD (power) "Analog power supply", 14 AVDD (power) "Analog power supply", 15 GND (power) "Ground", 18 GND (power) "Ground", 19 AVDD (power) "Analog power supply", 20 GND (power) "Ground", 21 AVDD (power) "Analog power supply", 22 GND (power) "Ground", 23 AVDD (power) "Analog power supply", 24 GND (power) "Ground", 25 AVDD (power) "Analog power supply", 26 GND (power) "Ground", 27 AVDD (power) "Analog power supply", 28 GND (power) "Ground", 30 GND (power) "Ground", 31 AVDD (power) "Analog power supply", 32 GND (power) "Ground", 34 GND (power) "Ground", 35 AVDD (power) "Analog power supply", 36 GND (power) "Ground", 37 AVDD (power) "Analog power supply", 38 GND (power) "Ground", 39 AVDD (power) "Analog power supply", 40 GND (power) "Ground", 51 DVDD (power) "Output driver power supply", 52 GND (power) "Ground", 65 GND (power) "Ground", 66 DVDD (power) "Output driver power supply", 81 EP (power)